# Altium integrated library IntegratedModule.IntLib: 1 symbol
Pins are listed as number, name and electrical type; pins without a type are passive.

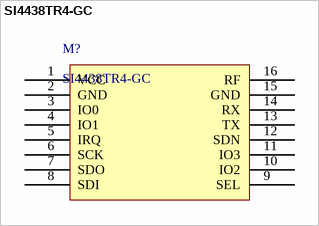
[diagram p0: symbol SI4438TR4-GC]

## SI4438TR4-GC
designator M?
无线模块，433MHz
footprint SI4438TR4-GC
pins: 1 VCC, 2 GND, 3 IO0, 4 IO1, 5 IRQ, 6 SCK, 7 SDO, 8 SDI, 9 SEL, 10 IO2, 11 IO3, 12 SDN, 13 TX, 14 RX, 15 GND, 16 RF